# EAGLE library part BA283 (library _mtvl.cells)
BA283 Board
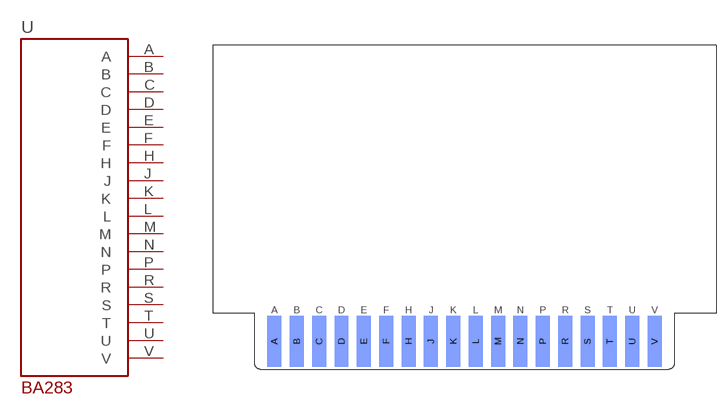
[diagram p10: symbol with the pads of BA283; footprint BA283]

Designator prefix -

## BA283  [BA283]
A  A
B  B
C  C
D  D
E  E
F  F
H  H
J  J
K  K
L  L
M  M
N  N
P  P
R  R
S  S
T  T
U  U
V  V

## Footprint BA283 (pad centres in mm)
smd 2.5 x 9.1 bottom: A -34,5; B -30,5; C -26,5; D -22,5; E -18,5; F -14,5; H -10,5; J -6,5; K -2,5; L 2,5; M 6,5; N 10,5; P 14,5; R 18,5; S 22,5; T 26,5; U 30,5; V 34,5